# Altium footprint library LED.PcbLib: 12 footprints
Each footprint in its own frame and in the unit in brackets; x right, y up, seen from the top. Pads: shape width x height; smd on the part's side, far side on the other; paste and mask are expansions set on the pad; w line width, h text height; cw(c..) or ccw(c..) is an arc to the next point about the centre after c.
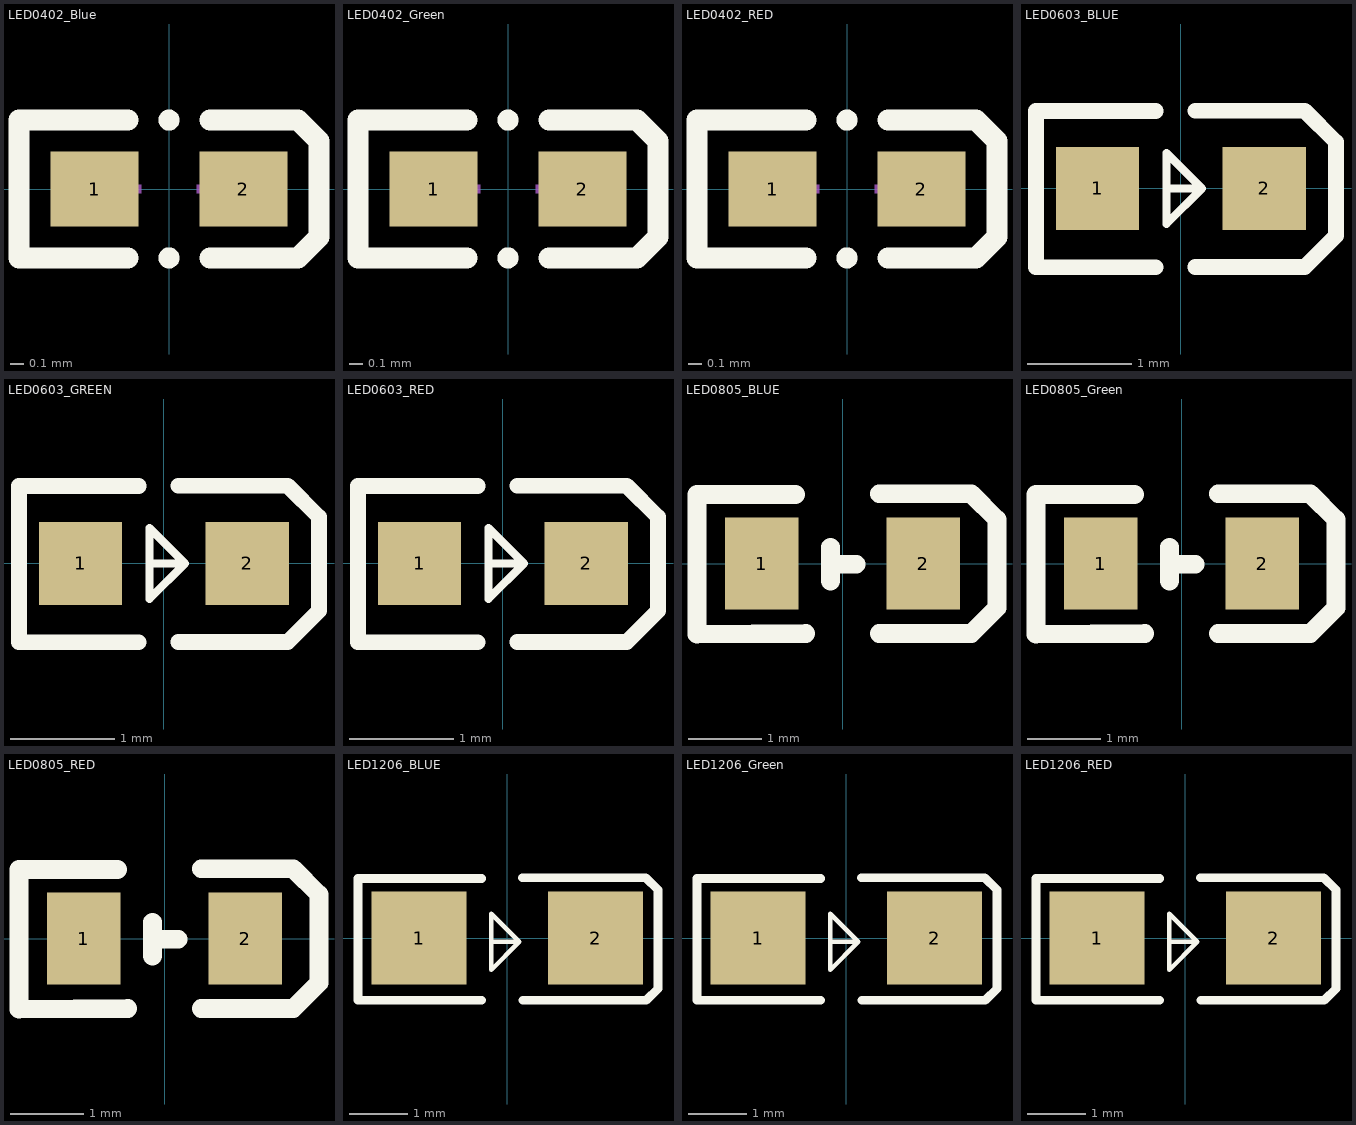
[diagram p0: the footprints below, top view; thin cyan lines are the x and y axes]

## LED0402_Blue [mm]
pads (2):
  rect 0.636x0.54 smd mask+0.051: 1(-0.538,0) 2(0.538,0)
Top Overlay:
  circle w0.076: c0,0.499 r0.038
  circle w0.076: c0,-0.499 r0.038
  lines w0.152: -0.296,-0.499 -1.085,-0.499 -1.085,0.499 -0.296,0.499 ; 0.296,-0.499 0.933,-0.499 1.085,-0.346 1.085,0.346 0.933,0.499 0.296,0.499
Mechanical 15:
  region: 0.44,0.03 0.44,-0.03 0.2,-0.03 0.2,0.03
  region: -0.44,0.03 -0.44,-0.03 -0.2,-0.03 -0.2,0.03
  region: -0.35,0.2 -0.35,-0.2 -0.29,-0.2 -0.29,0.2
3D body "User Library-LED_1006_B.STEP": height 0.2, standoff 0, extent -0.5,-0.3 0.5,0.3

## LED0402_Green [mm]
pads (2):
  rect 0.636x0.54 smd mask+0.051: 1(-0.538,0) 2(0.538,0)
Top Overlay:
  circle w0.076: c0,0.499 r0.038
  circle w0.076: c0,-0.499 r0.038
  lines w0.152: -0.296,-0.499 -1.085,-0.499 -1.085,0.499 -0.296,0.499 ; 0.296,-0.499 0.933,-0.499 1.085,-0.346 1.085,0.346 0.933,0.499 0.296,0.499
Mechanical 15:
  region: 0.44,0.03 0.44,-0.03 0.2,-0.03 0.2,0.03
  region: -0.44,0.03 -0.44,-0.03 -0.2,-0.03 -0.2,0.03
  region: -0.35,0.2 -0.35,-0.2 -0.29,-0.2 -0.29,0.2
3D body "User Library-LED_1006_G.STEP": height 0.2, standoff 0, extent -0.5,-0.3 0.5,0.3

## LED0402_RED [mm]
pads (2):
  rect 0.636x0.54 smd mask+0.051: 1(-0.538,0) 2(0.538,0)
Top Overlay:
  circle w0.076: c0,-0.499 r0.038
  circle w0.076: c0,0.499 r0.038
  lines w0.152: -0.296,-0.499 -1.085,-0.499 -1.085,0.499 -0.296,0.499 ; 0.296,-0.499 0.933,-0.499 1.085,-0.346 1.085,0.346 0.933,0.499 0.296,0.499
Mechanical 15:
  region: -0.35,0.2 -0.35,-0.2 -0.29,-0.2 -0.29,0.2
  region: -0.44,0.03 -0.44,-0.03 -0.2,-0.03 -0.2,0.03
  region: 0.44,0.03 0.44,-0.03 0.2,-0.03 0.2,0.03
3D body "User Library-LED_1006_R.STEP": height 0.2, standoff 0, extent -0.5,-0.3 0.5,0.3

## LED0603_BLUE [mm]
pads (2):
  rect 0.8x0.8 smd paste+0 mask+0.051: 1(-0.799,0) 2(0.799,0)
Top Overlay:
  lines w0.076: -0.137,0 0.203,0 ; 0.203,0 -0.137,-0.34 -0.137,0.34 0.203,0
  lines w0.15: -1.39,0.723 -1.39,-0.756 -0.24,-0.757 ; -1.39,0.744 -0.24,0.744 ; 0.14,-0.754 1.19,-0.754 1.49,-0.454 1.49,-0.354 1.49,0.346 1.49,0.446 1.19,0.746 0.14,0.746
Mechanical 15:
  region: 1.07,-0.061 0.53,-0.061 0.53,0.069 1.07,0.069
  region: -0.735,0.267 -0.735,-0.273 -0.865,-0.273 -0.865,0.267
  region: -0.529,-0.068 -1.069,-0.068 -1.069,0.062 -0.529,0.062
3D body "User Library-LED_0603_B.STEP": height 0.6, standoff 0, extent -0.8,-0.4 0.8,0.4

## LED0603_GREEN [mm]
pads (2):
  rect 0.8x0.8 smd paste+0 mask+0.051: 1(-0.799,0) 2(0.799,0)
Top Overlay:
  lines w0.076: -0.137,0 0.203,0 ; 0.203,0 -0.137,-0.34 -0.137,0.34 0.203,0
  lines w0.15: -1.39,0.723 -1.39,-0.756 -0.24,-0.757 ; -1.39,0.744 -0.24,0.744 ; 0.14,-0.754 1.19,-0.754 1.49,-0.454 1.49,-0.354 1.49,0.346 1.49,0.446 1.19,0.746 0.14,0.746
Mechanical 15:
  region: 1.07,-0.061 0.53,-0.061 0.53,0.069 1.07,0.069
  region: -0.735,0.267 -0.735,-0.273 -0.865,-0.273 -0.865,0.267
  region: -0.529,-0.068 -1.069,-0.068 -1.069,0.062 -0.529,0.062
3D body "User Library-LED_0603_G.STEP": height 0.6, standoff 0, extent -0.8,-0.4 0.8,0.4

## LED0603_RED [mm]
pads (2):
  rect 0.8x0.8 smd paste+0 mask+0.051: 1(-0.799,0) 2(0.799,0)
Top Overlay:
  lines w0.076: -0.137,0 0.203,0 ; 0.203,0 -0.137,0.34 -0.137,-0.34 0.203,0
  lines w0.15: -1.39,0.723 -1.39,-0.756 -0.24,-0.757 ; -1.39,0.744 -0.24,0.744 ; 0.14,-0.754 1.19,-0.754 1.49,-0.454 1.49,-0.354 1.49,0.346 1.49,0.446 1.19,0.746 0.14,0.746
Mechanical 15:
  region: 1.07,-0.061 0.53,-0.061 0.53,0.069 1.07,0.069
  region: -0.735,0.267 -0.735,-0.273 -0.865,-0.273 -0.865,0.267
  region: -0.529,-0.068 -1.069,-0.068 -1.069,0.062 -0.529,0.062
3D body "User Library-LED_0603_R.STEP": height 0.6, standoff 0, extent -0.8,-0.4 0.8,0.4

## LED0805_BLUE [mm]
pads (2):
  rect 1x1.25 smd paste+0 mask+0.051: 1(-1.1,0) 2(1.1,0)
Top Overlay:
  lines w0.254: -0.64,0.94 -1.98,0.94 -1.98,-0.96 -0.5,-0.95 ; -0.165,-0.236 -0.165,0.221 ; -0.165,-0.007 0.186,-0.007 ; 0.5,-0.95 1.75,-0.95 ; 0.5,0.95 1.75,0.95 ; 1.75,-0.95 1.75,-0.95 ; 1.75,-0.95 2.1,-0.6 2.1,0.6 1.75,0.95 ; 1.75,0.95 1.75,0.95
Mechanical 15:
  region: -0.992,-0.457 -1.192,-0.457 -1.192,0.483 -0.992,0.483
  region: -0.635,0.094 -1.524,0.094 -1.524,-0.056 -0.635,-0.056
  region: 1.524,0 0.686,0 0.686,-0.15 1.524,-0.15
3D body "everlight-17-21-0805LED-BLUE.STEP": height 1.1, standoff -0.01, extent -0.99,-0.632 1.01,0.618

## LED0805_Green [mm]
pads (2):
  rect 1x1.25 smd paste+0 mask+0.051: 1(-1.1,0) 2(1.1,0)
Top Overlay:
  lines w0.254: -0.64,0.94 -1.98,0.94 -1.98,-0.96 -0.5,-0.95 ; -0.165,-0.236 -0.165,0.221 ; -0.165,-0.007 0.186,-0.007 ; 0.5,-0.95 1.75,-0.95 ; 0.5,0.95 1.75,0.95 ; 1.75,-0.95 2.1,-0.6 2.1,0.6 1.75,0.95 ; 1.75,-0.95 1.75,-0.95 ; 1.75,0.95 1.75,0.95
Mechanical 15:
  region: 1.524,0 0.686,0 0.686,-0.15 1.524,-0.15
  region: -0.635,0.094 -1.524,0.094 -1.524,-0.056 -0.635,-0.056
  region: -0.992,-0.457 -1.192,-0.457 -1.192,0.483 -0.992,0.483
3D body "everlight-17-21-0805LED-GREEN.STEP": height 1.1, standoff -0.01, extent -0.99,-0.632 1.01,0.618

## LED0805_RED [mm]
pads (2):
  rect 1x1.25 smd paste+0 mask+0.051: 1(-1.1,0) 2(1.1,0)
Top Overlay:
  lines w0.254: -0.64,0.94 -1.98,0.94 -1.98,-0.96 -0.5,-0.95 ; -0.165,-0.236 -0.165,0.221 ; -0.165,-0.007 0.186,-0.007 ; 0.5,-0.95 1.75,-0.95 ; 0.5,0.95 1.75,0.95 ; 1.75,-0.95 1.75,-0.95 ; 1.75,-0.95 2.1,-0.6 2.1,0.6 1.75,0.95 ; 1.75,0.95 1.75,0.95
Mechanical 15:
  region: -0.992,-0.457 -1.192,-0.457 -1.192,0.483 -0.992,0.483
  region: -0.635,0.094 -1.524,0.094 -1.524,-0.056 -0.635,-0.056
  region: 1.524,0 0.686,0 0.686,-0.15 1.524,-0.15
3D body "everlight-17-21-0805LED-red.STEP": height 1.1, standoff -0.01, extent -0.99,-0.632 1.01,0.618

## LED1206_BLUE [mm]
pads (2):
  rect 1.635x1.6 smd mask+0.051: 1(-1.517,0) 2(1.517,0)
Top Overlay:
  lines w0.076: -0.28,0.393 -0.28,-0.077 -0.268,-0.064 0.19,-0.064 ; -0.28,-0.547 0.202,-0.064 -0.28,0.419 -0.28,-0.547
  lines w0.15: -0.443,-1.07 -2.57,-1.07 -2.57,1.024 -0.443,1.024 ; 0.253,1.04 2.38,1.04 2.59,0.83 2.59,-0.79 2.59,-0.87 2.39,-1.07 0.263,-1.07
Mechanical 15:
  region: -1.225,0.5 -1.225,-0.5 -1.075,-0.5 -1.075,0.5
  region: -1.45,0.075 -1.45,-0.075 -0.85,-0.075 -0.85,0.075
  region: 1.45,0.075 1.45,-0.075 0.85,-0.075 0.85,0.075
3D body "LED_1206_Blue.stp": height 0.9, standoff 0, extent -1.635,-0.837 1.635,0.813

## LED1206_Green [mm]
pads (2):
  rect 1.635x1.6 smd mask+0.051: 1(-1.517,0) 2(1.517,0)
Top Overlay:
  lines w0.076: -0.28,0.393 -0.28,-0.077 -0.268,-0.064 0.19,-0.064 ; -0.28,-0.547 0.202,-0.064 -0.28,0.419 -0.28,-0.547
  lines w0.15: -0.443,-1.07 -2.57,-1.07 -2.57,1.024 -0.443,1.024 ; 0.253,1.04 2.38,1.04 2.59,0.83 2.59,-0.79 2.59,-0.87 2.39,-1.07 0.263,-1.07
Mechanical 15:
  region: -1.225,0.5 -1.225,-0.5 -1.075,-0.5 -1.075,0.5
  region: -1.45,0.075 -1.45,-0.075 -0.85,-0.075 -0.85,0.075
  region: 1.45,0.075 1.45,-0.075 0.85,-0.075 0.85,0.075
3D body "LED_1206_Green.stp": height 0.9, standoff 0, extent -1.635,-0.837 1.635,0.813

## LED1206_RED [mm]
pads (2):
  rect 1.635x1.6 smd mask+0.051: 1(-1.517,0) 2(1.517,0)
Top Overlay:
  lines w0.076: -0.28,0.393 -0.28,-0.077 -0.268,-0.064 0.19,-0.064 ; -0.28,-0.547 0.202,-0.064 -0.28,0.419 -0.28,-0.547
  lines w0.15: -0.443,-1.07 -2.57,-1.07 -2.57,1.024 -0.443,1.024 ; 0.253,1.04 2.38,1.04 2.59,0.83 2.59,-0.79 2.59,-0.87 2.39,-1.07 0.263,-1.07
Mechanical 15:
  region: -1.225,0.5 -1.225,-0.5 -1.075,-0.5 -1.075,0.5
  region: -1.45,0.075 -1.45,-0.075 -0.85,-0.075 -0.85,0.075
  region: 1.45,0.075 1.45,-0.075 0.85,-0.075 0.85,0.075
3D body "LED_1206_Red.stp": height 0.9, standoff 0, extent -1.635,-0.837 1.635,0.813